# Altium schematic symbol library SN74LVC1404DCUR.SchLib: 1 symbol
Pins are listed as number, name and electrical type; pins without a type are passive.

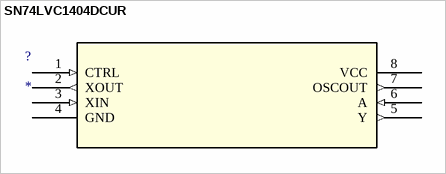
[diagram p0: symbol SN74LVC1404DCUR]

## SN74LVC1404DCUR
designator ?
Imported; Manufacturer_Part_Number: SN74LVC1404DCUR; GENERIC_PART_NUMBER: SN74LVC1404; Vendor: Texas Instruments; PACKAGE_DESIGNATOR: DCU; PIN_COUNT: 8; FAMILY_NAME: INVERTING BUFFER/DRIVER; INDUSTRY_STD_PKG_TYPE: US8; 3D_Library_Name: TI_AllParts_2012-12-25; C: Copyright (C) 2015 Accelerated Designs. All rights reserved; Datasheet URL: http://www.ti.com/lit/gpn/SN74LVC1404; Manufacturer: Texas Instruments; Copyright: Copyright (C) 2015 Accelerated Designs. All rights reserved; RefDes: RefDes; Type: DEV; Value: Value
footprint DCU8
pins: 1 CTRL (in), 2 XOUT (out), 3 XIN (in), 4 GND (power), 5 Y (out), 6 A (in), 7 OSCOUT (out), 8 VCC (power)